# EAGLE library part MCP4921 (library mcp)
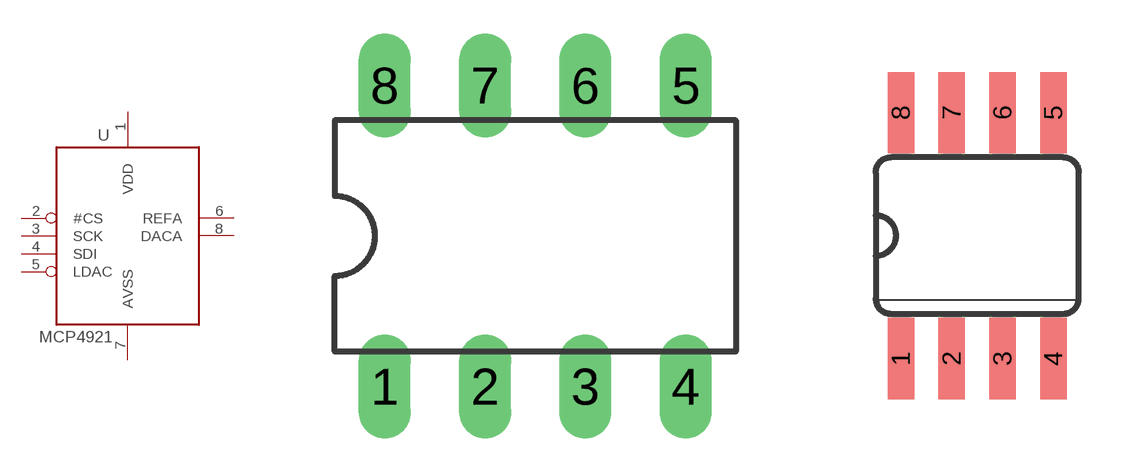
[diagram p0: symbol with the pads of DIL08; footprints DIL08, SO08]

Designator prefix -

## MCP4921  [DIL08]
1  VDD  sup
2  #CS  in
3  SCK  in
4  SDI  in
5  LDAC  in
6  REFA  in
7  AVSS  sup
8  DACA  out

## MCP4921MCP4921-E/SN  [SO08]
Pads as for DIL08

## Footprint DIL08 (pad centres in mm)
Dual In Line Package
drill 0.813 long: 1 -3.81,-3.81; 2 -1.27,-3.81; 3 1.27,-3.81; 4 3.81,-3.81; 5 3.81,3.81; 6 1.27,3.81; 7 -1.27,3.81; 8 -3.81,3.81

## Footprint SO08 (pad centres in mm)
smd 0.66 x 2.032: 1 -1.905,-3.073; 2 -0.635,-3.073; 3 0.635,-3.073; 4 1.905,-3.073; 5 1.905,3.073; 6 0.635,3.073; 7 -0.635,3.073; 8 -1.905,3.073